# EAGLE library part BUSTER (library Amiga)
Buster for A2000
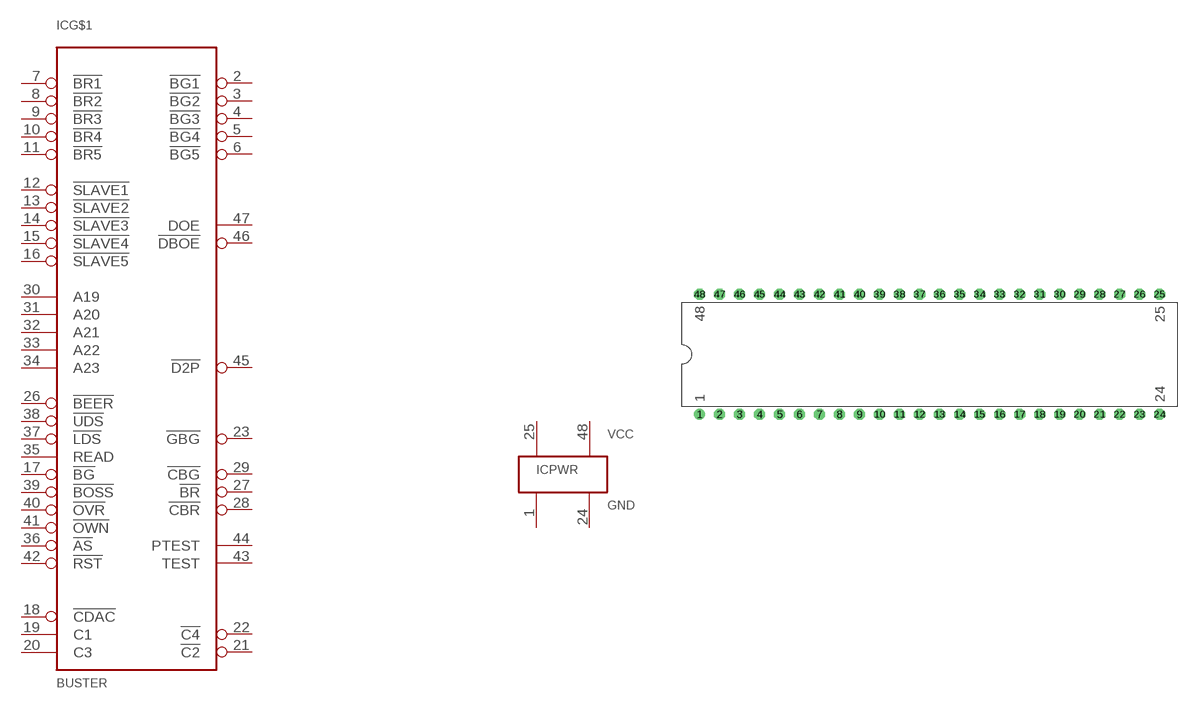
[diagram p26: symbol with the pads of DIP48-6; footprint DIP48-6]

Designator prefix IC; gates G$1=BUSTER PWR=2VCC-2GND

## BUSTER_THT  [DIP48-6]
1  PWR:GND  pwr
2  G$1:!BG1  out
3  G$1:!BG2  out
4  G$1:!BG3  out
5  G$1:!BG4  out
6  G$1:!BG5  out
7  G$1:!BR1  in
8  G$1:!BR2  in
9  G$1:!BR3  in
10  G$1:!BR4  in
11  G$1:!BR5  in
12  G$1:!SLAVE1  in
13  G$1:!SLAVE2  in
14  G$1:!SLAVE3  in
15  G$1:!SLAVE4  in
16  G$1:!SLAVE5  in
17  G$1:!BG  in
18  G$1:!CDAC  in
19  G$1:C1  in
20  G$1:C3  in
21  G$1:!C2  out
22  G$1:!C4  out
23  G$1:!GBG  out
24  PWR:GND  pwr
25  PWR:VCC  pwr
26  G$1:!BEER  in
27  G$1:!BR  out
28  G$1:!CBR
29  G$1:!CBG
30  G$1:A19  in
31  G$1:A20  in
32  G$1:A21  in
33  G$1:A22  in
34  G$1:A23  in
35  G$1:READ  in
36  G$1:!AS  in
37  G$1:!LDS  in
38  G$1:!UDS  in
39  G$1:!BOSS  in
40  G$1:!OVR  in
41  G$1:!OWN  in
42  G$1:!RST  in
43  G$1:TEST  in
44  G$1:PTEST
45  G$1:!D2P  out
46  G$1:!DBOE  out
47  G$1:DOE  out
48  PWR:VCC  pwr

## Footprint DIP48-6 (pad centres in mm)
drill 0.8 pad 1.4: 1 -27.94,-7.62
drill 0.8 pad 1.4 octagon: 2 -25.4,-7.62; 3 -22.86,-7.62; 4 -20.32,-7.62; 5 -17.78,-7.62; 6 -15.24,-7.62; 7 -12.7,-7.62; 8 -10.16,-7.62; 9 -7.62,-7.62; 10 -5.08,-7.62; 11 -2.54,-7.62; 12 0,-7.62; 13 2.54,-7.62; 14 5.08,-7.62; 15 7.62,-7.62; 16 10.16,-7.62; 17 12.7,-7.62; 18 15.24,-7.62; 19 17.78,-7.62; 20 20.32,-7.62; 21 22.86,-7.62; 22 25.4,-7.62; 23 27.94,-7.62; 24 30.48,-7.62; 25 30.48,7.62; 26 27.94,7.62; 27 25.4,7.62; 28 22.86,7.62; 29 20.32,7.62; 30 17.78,7.62; 31 15.24,7.62; 32 12.7,7.62; 33 10.16,7.62; 34 7.62,7.62; 35 5.08,7.62; 36 2.54,7.62; 37 0,7.62; 38 -2.54,7.62; 39 -5.08,7.62; 40 -7.62,7.62; 41 -10.16,7.62; 42 -12.7,7.62; 43 -15.24,7.62; 44 -17.78,7.62; 45 -20.32,7.62; 46 -22.86,7.62; 47 -25.4,7.62; 48 -27.94,7.62